# Altium footprint library TRANS_CSD19502Q5BT.PcbLib: 1 footprints
Each footprint in its own frame and in the unit in brackets; x right, y up, seen from the top. Pads: shape width x height; smd on the part's side, far side on the other; paste and mask are expansions set on the pad; w line width, h text height; cw(c..) or ccw(c..) is an arc to the next point about the centre after c.
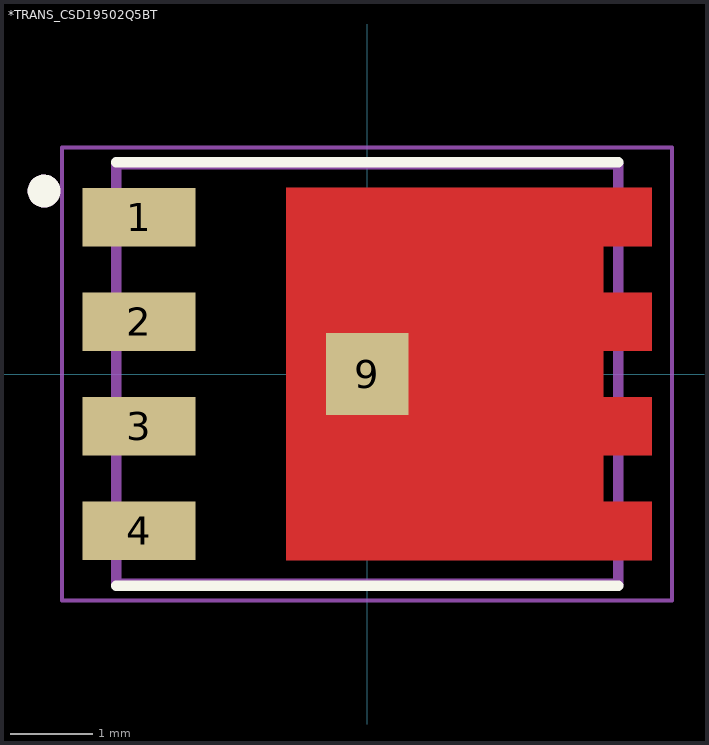
[diagram p0: the footprint, top view; thin cyan lines are the x and y axes]

## *TRANS_CSD19502Q5BT [mm]
pads (5):
  rect 1.372x0.71 smd: 1(-2.77,1.905) 2(-2.77,0.635) 3(-2.77,-0.635) 4(-2.77,-1.905)
  rect 1x1 smd: 9(0,0)
Top Layer:
  region: -0.984,-2.26 -0.984,2.26 3.456,2.26 3.456,1.55 2.866,1.55 2.866,0.99 3.456,0.99 3.456,0.28 2.866,0.28 2.866,-0.28 3.456,-0.28 3.456,-0.99 2.866,-0.99 2.866,-1.55 3.456,-1.55 3.456,-2.26
Top Overlay:
  circle w0.2: c-3.925,2.222 r0.1
  lines w0.127: -3.05,-2.575 3.05,-2.575 ; -3.05,2.575 3.05,2.575
Top Paste:
  region: -0.697,1.942 0.597,1.942 0.597,1.196 -0.697,1.196
  region: -0.697,0.896 0.597,0.896 0.597,0.15 -0.697,0.15
  region: -0.697,-0.15 0.597,-0.15 0.597,-0.896 -0.697,-0.896
  region: -0.697,-1.196 0.597,-1.196 0.597,-1.942 -0.697,-1.942
  region: 0.947,-1.196 2.241,-1.196 2.241,-1.942 0.947,-1.942
  region: 0.947,1.942 2.241,1.942 2.241,1.196 0.947,1.196
  region: 0.947,-0.15 2.241,-0.15 2.241,-0.896 0.947,-0.896
  region: 0.947,0.896 2.241,0.896 2.241,0.15 0.947,0.15
  region: 2.527,-1.651 3.293,-1.651 3.293,-2.159 2.527,-2.159
  region: 2.527,-0.381 3.293,-0.381 3.293,-0.889 2.527,-0.889
  region: 2.527,0.889 3.293,0.889 3.293,0.381 2.527,0.381
  region: 2.527,2.159 3.293,2.159 3.293,1.651 2.527,1.651
  region: -3.293,-1.624 -2.221,-1.624 -2.221,-2.186 -3.293,-2.186
  region: -3.293,-0.354 -2.221,-0.354 -2.221,-0.916 -3.293,-0.916
  region: -3.293,0.916 -2.221,0.916 -2.221,0.354 -3.293,0.354
  region: -3.293,2.186 -2.221,2.186 -2.221,1.624 -3.293,1.624
Top Solder:
  region: -1.084,-2.36 -1.084,2.36 3.556,2.36 3.556,1.45 2.966,1.45 2.966,1.09 3.556,1.09 3.556,0.18 2.966,0.18 2.966,-0.18 3.556,-0.18 3.556,-1.09 2.966,-1.09 2.966,-1.45 3.566,-1.45 3.566,-2.36
Mechanical 4:
  circle w0.2: c-3.925,2.222 r0.1
  circle w0.2: c-3.925,2.222 r0.1
  lines w0.127: -3.05,-2.55 3.05,-2.55 ; -3.05,-2.55 -3.05,2.55 ; -3.05,-2.55 3.05,-2.55 ; -3.05,-2.55 -3.05,2.55 ; -3.05,2.55 3.05,2.55 ; -3.05,2.55 3.05,2.55 ; 3.05,-2.55 3.05,2.55 ; 3.05,-2.55 3.05,2.55
Mechanical 16:
  lines w0.05: -3.706,-2.75 -3.706,2.75 3.706,2.75 3.706,-2.75 -3.706,-2.75